# EAGLE library part STM32F030F4P6 (library anasoft)
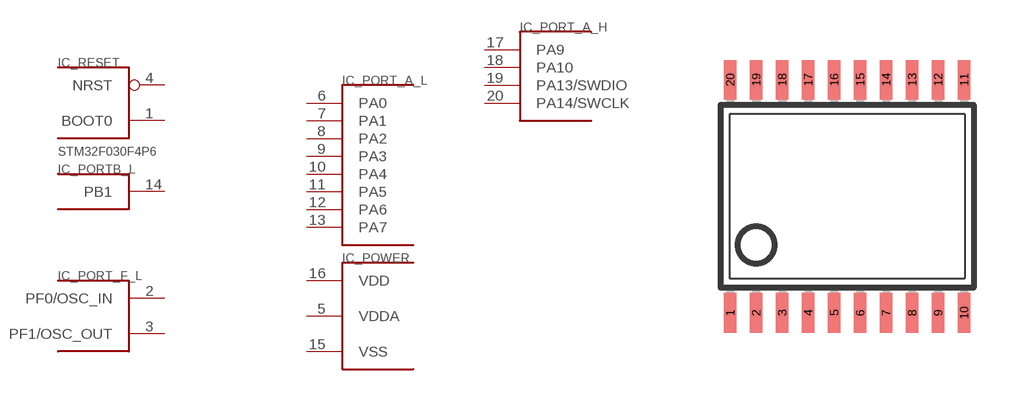
[diagram p15: symbol with the pads of TSSOP20; footprint TSSOP20]

Designator prefix IC; gates _RESET=BOOT_RST _PORT_A_L=PORT_A_L _PORTB_L=PORT_B_1 _PORT_A_H=PORT_A_H_4 _PORT_F_L=PORT_F_L _POWER=VCC_VSS_VDDA

## STM32F030F4P6  [TSSOP20]
1  _RESET:BOOT0  in
2  _PORT_F_L:PF0/OSC_IN  in
3  _PORT_F_L:PF1/OSC_OUT  out
4  _RESET:NRST
5  _POWER:VDDA  pwr
6  _PORT_A_L:PA0
7  _PORT_A_L:PA1
8  _PORT_A_L:PA2
9  _PORT_A_L:PA3
10  _PORT_A_L:PA4
11  _PORT_A_L:PA5
12  _PORT_A_L:PA6
13  _PORT_A_L:PA7
14  _PORTB_L:PB1
15  _POWER:VSS  pwr
16  _POWER:VDD  pwr
17  _PORT_A_H:PA9
18  _PORT_A_H:PA10
19  _PORT_A_H:PA13/SWDIO
20  _PORT_A_H:PA14/SWCLK

## Footprint TSSOP20 (pad centres in mm)
Thin Shrink Small Outline Plastic 20 MAX3223-MAX3243.pdf
smd 0.305 x 0.991: 1 -2.925,-2.918; 2 -2.275,-2.918; 3 -1.625,-2.918; 4 -0.975,-2.918; 5 -0.325,-2.918; 6 0.325,-2.918; 7 0.975,-2.918; 8 1.625,-2.918; 9 2.275,-2.918; 10 2.925,-2.918; 11 2.925,2.918; 12 2.275,2.918; 13 1.625,2.918; 14 0.975,2.918; 15 0.325,2.918; 16 -0.325,2.918; 17 -0.975,2.918; 18 -1.625,2.918; 19 -2.275,2.918; 20 -2.925,2.918